# EAGLE library part CAT24C512WI-GT3 (library CAT24C512WI-GT3)
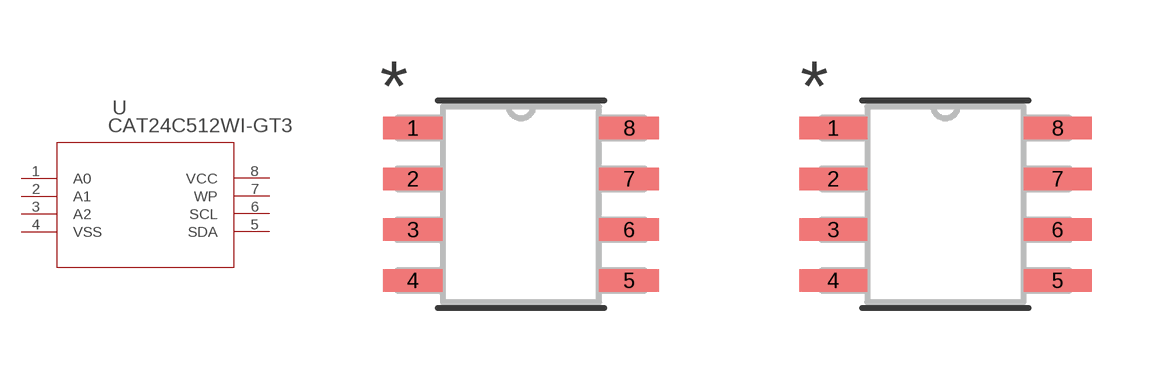
[diagram p0: symbol with the pads of SOIC8_ONS; footprints SOIC8_ONS, SOIC8_ONS-M]

Designator prefix U

## CAT24C512WI-GT3 (COPYRIGHT: Copyright (C) 2022 Ultra Librarian. All rights reserved.; DIGI-KEY_PART_NUMBER_1: CAT24C512WI-GT3OSCT-ND; DIGI-KEY_PART_NUMBER_2: CAT24C512WI-GT3OSDKR-ND; DIGI-KEY_PART_NUMBER_3: CAT24C512WI-GT3OSTR-ND; DIGI-KEY_PART_NUMBER_4: 2156-CAT24C512WI-GT3-OS-ND; MANUFACTURER_PART_NUMBER: CAT24C512WI-GT3; MFR_NAME: onsemi)  [SOIC8_ONS]
1  A0  pas
2  A1  pas
3  A2  pas
4  VSS  pwr
5  SDA  pas
6  SCL  pas
7  WP  pas
8  VCC  pwr

## CAT24C512WI-GT3SOIC8_ONS-M (COPYRIGHT: Copyright (C) 2022 Ultra Librarian. All rights reserved.; DIGI-KEY_PART_NUMBER_1: CAT24C512WI-GT3OSCT-ND; DIGI-KEY_PART_NUMBER_2: CAT24C512WI-GT3OSDKR-ND; DIGI-KEY_PART_NUMBER_3: CAT24C512WI-GT3OSTR-ND; DIGI-KEY_PART_NUMBER_4: 2156-CAT24C512WI-GT3-OS-ND; MANUFACTURER_PART_NUMBER: CAT24C512WI-GT3; MFR_NAME: onsemi)  [SOIC8_ONS-M]
Pads as for SOIC8_ONS

## CAT24C512WI-GT3SOIC8_ONS-L (COPYRIGHT: Copyright (C) 2022 Ultra Librarian. All rights reserved.; DIGI-KEY_PART_NUMBER_1: CAT24C512WI-GT3OSCT-ND; DIGI-KEY_PART_NUMBER_2: CAT24C512WI-GT3OSDKR-ND; DIGI-KEY_PART_NUMBER_3: CAT24C512WI-GT3OSTR-ND; DIGI-KEY_PART_NUMBER_4: 2156-CAT24C512WI-GT3-OS-ND; MANUFACTURER_PART_NUMBER: CAT24C512WI-GT3; MFR_NAME: onsemi)  [SOIC8_ONS-L]
Pads as for SOIC8_ONS

## Footprint SOIC8_ONS (pad centres in mm)
smd 1.499 x 0.559: 1 -2.705,1.905; 2 -2.705,0.635; 3 -2.705,-0.635; 4 -2.705,-1.905; 5 2.705,-1.905; 6 2.705,-0.635; 7 2.705,0.635; 8 2.705,1.905

## Footprint SOIC8_ONS-M (pad centres in mm)
smd 1.702 x 0.559: 1 -2.807,1.905; 2 -2.807,0.635; 3 -2.807,-0.635; 4 -2.807,-1.905; 5 2.807,-1.905; 6 2.807,-0.635; 7 2.807,0.635; 8 2.807,1.905

## Footprint SOIC8_ONS-L (pad centres in mm)
smd 1.295 x 0.508: 1 -2.603,1.905; 2 -2.603,0.635; 3 -2.603,-0.635; 4 -2.603,-1.905; 5 2.603,-1.905; 6 2.603,-0.635; 7 2.603,0.635; 8 2.603,1.905